# Altium schematic symbol library on-semi-mosfet.SchLib: 2 symbols
Pins are listed as number, name and electrical type; pins without a type are passive.

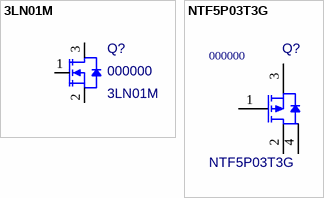
[diagram p0: symbols 3LN01M to NTF5P03T3G]

## 3LN01M
designator Q?, comment 000000  value 3LN01M
N-Channel MOSFET 30V 150mA; MF PN: 3LN01M-TL-H; MF: ON Semiconductor; PN: 000000; Package: SC-70; ExtraInfo: *
footprint SOT-323-M (SC-70/SOT323)
pins: 1 G, 2 S, 3 D

## NTF5P03T3G
designator Q?, comment 000000  value NTF5P03T3G
P-Channel MOSFET 30V -5.2A SOT223; Package: SOT-223; PN: 000000; ExtraInfo: *
footprint SOT223-M (SOT223, 4-Leads, Body 6.7x7.3mm (max), Pitch 2.30mm, IPC Medium Density)
simulation model NTF5P03T3
pins: 1 G, 2 D, 3 S, 4 D